# Altium integrated library Digital.IntLib: 15 symbols
Pins are listed as number, name and electrical type; pins without a type are passive.

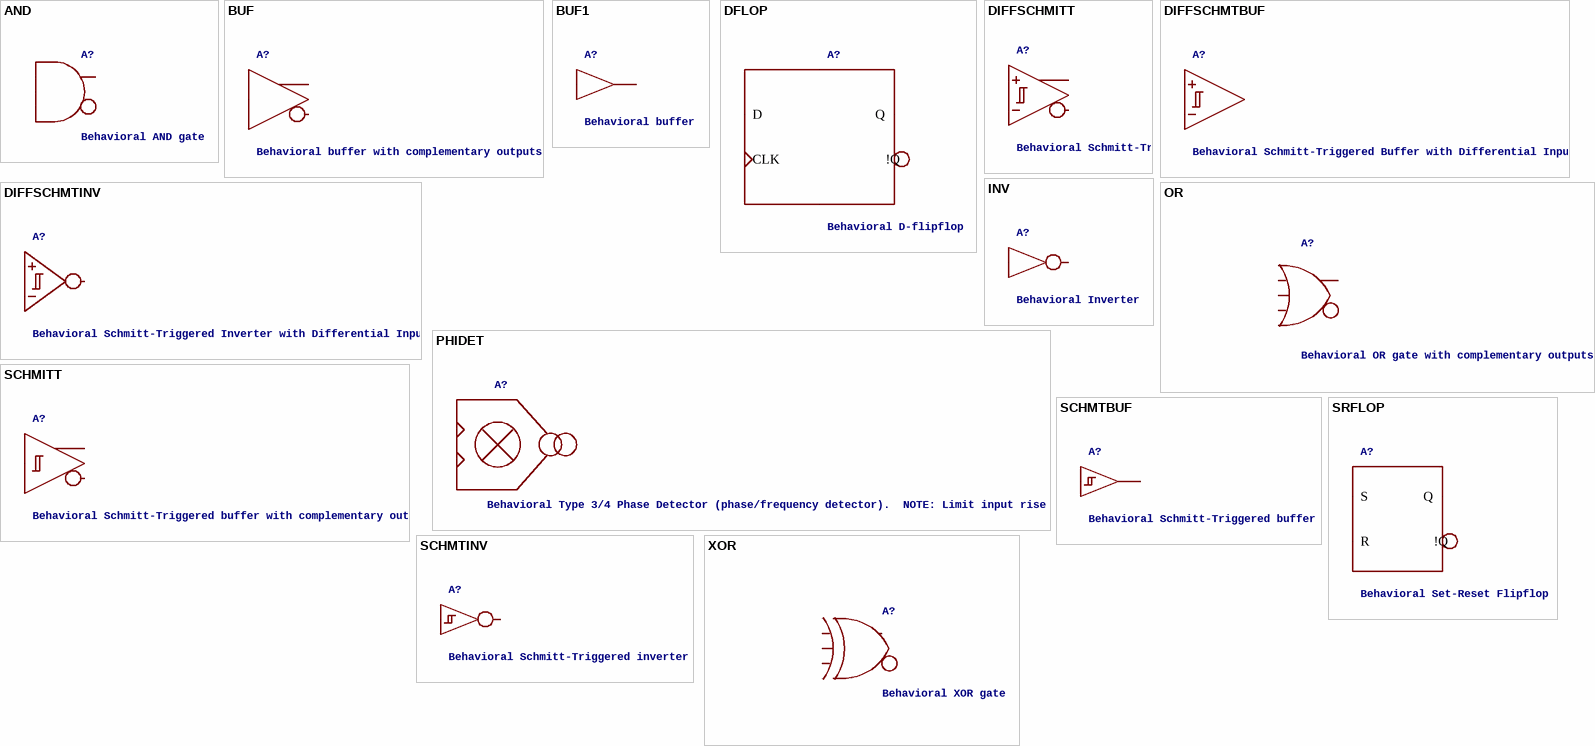
[diagram p0: symbols AND to XOR]

## AND
designator A?, comment Behavioral AND gate
footprint SO14
pins: 1 A, 2 B, 3 C, 4 D, 5 E, 6 !Q, 7 COM, 8 Q

## BUF
designator A?, comment Behavioral buffer with complementary outputs
SPICEMODEL: BUF
pins: ?1 IN, ?2 !Q, ?3 Q, ?4 COM

## BUF1
designator A?, comment Behavioral buffer
SPICEMODEL: BUF
pins: ?1 IN, ?2 Q, ?3 COM

## DFLOP
designator A?, comment Behavioral D-flipflop
footprint SO14
pins: 1 D, 2 CLK, 3 CLR, 4 PRE, 5 Q, 6 !Q, 7 COM

## DIFFSCHMITT
designator A?, comment Behavioral Schmitt-Triggered Buffer with Complementary Outs and Differential Input
SPICEMODEL: SCHMITT
pins: ?1 IN+, ?2 IN-, ?3 !Q, ?4 Q, ?5 COM

## DIFFSCHMTBUF
designator A?, comment Behavioral Schmitt-Triggered Buffer with Differential Input
SPICEMODEL: SCHMITT
pins: ?1 IN+, ?2 IN-, ?3 Q, ?4 COM

## DIFFSCHMTINV
designator A?, comment Behavioral Schmitt-Triggered Inverter with Differential Input
SPICEMODEL: SCHMITT
pins: ?1 IN+, ?2 IN-, ?3 !Q, ?4 COM

## INV
designator A?, comment Behavioral Inverter
footprint SO14
pins: 1 IN, 2 !Q, 7 COM

## OR
designator A?, comment Behavioral OR gate with complementary outputs
SPICEMODEL: OR
pins: ?1 A, ?2 B, ?3 C, ?4 D, ?5 E, ?6 !Q, ?7 Q, ?8 COM

## PHIDET
designator A?, comment Behavioral Type 3/4 Phase Detector (phase/frequency detector).  NOTE: Limit input rise times
footprint SO14
pins: 1 A, 2 B, 3 Q, 7 COM

## SCHMITT
designator A?, comment Behavioral Schmitt-Triggered buffer with complementary outs
SPICEMODEL: SCHMITT
pins: ?1 IN, ?2 !Q, ?3 Q, ?4 COM

## SCHMTBUF
designator A?, comment Behavioral Schmitt-Triggered buffer
footprint SO14
pins: 1 IN, 2 Q, 7 COM

## SCHMTINV
designator A?, comment Behavioral Schmitt-Triggered inverter
SPICEMODEL: SCHMITT
pins: ?1 IN, ?2 !Q, ?3 COM

## SRFLOP
designator A?, comment Behavioral Set-Reset Flipflop
SPICEMODEL: SRFLOP
pins: ?1 S, ?2 R, ?3 !Q, ?4 Q, ?5 COM

## XOR
designator A?, comment Behavioral XOR gate
footprint SO14
pins: 1 A, 2 B, 3 C, 4 D, 5 E, 7 COM, 8 Q, 9 !Q